# Altium footprint library 14-SOIC-TI-D.PcbLib: 1 footprints
Each footprint in its own frame and in the unit in brackets; x right, y up, seen from the top. Pads: shape width x height; smd on the part's side, far side on the other; paste and mask are expansions set on the pad; w line width, h text height; cw(c..) or ccw(c..) is an arc to the next point about the centre after c.
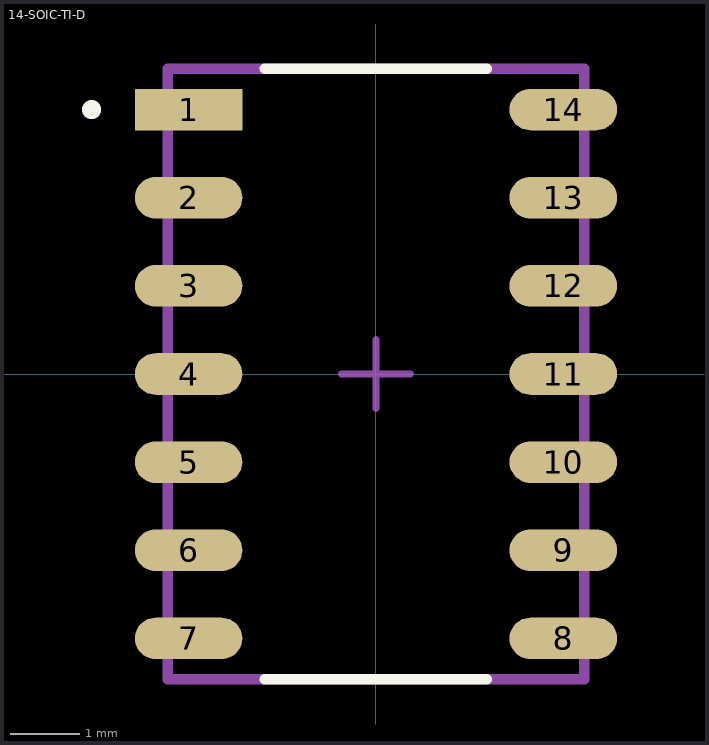
[diagram p0: the footprint, top view; thin cyan lines are the x and y axes]

## 14-SOIC-TI-D [mm]
pads (14):
  rect 1.55x0.6 smd mask+0.051: 1(-2.7,3.81)
  oval 1.55x0.6 smd mask+0.051: 2(-2.7,2.54) 3(-2.7,1.27) 4(-2.7,0) 5(-2.7,-1.27) 6(-2.7,-2.54) 7(-2.7,-3.81) 8(2.7,-3.81) 9(2.7,-2.54) 10(2.7,-1.27) 11(2.7,0) 12(2.7,1.27) 13(2.7,2.54) 14(2.7,3.81)
Top Overlay:
  circle w0.254: c-4.097,3.81 r0.01
  lines w0.15: -1.6,-4.4 1.6,-4.4 ; -1.6,4.4 1.6,4.4
Mechanical 13:
  lines w0.15: -3,-4.4 -3,4.4 3,4.4 3,-4.4 -3,-4.4
Mechanical 15:
  lines w0.1: -0.5,0 0,0 ; 0,0 0,0.5 0,0 ; 0,0 0.5,0 0,0 ; 0,0 0,-0.5 0,0
3D body "14-SOIC.step": height 1.7, standoff 0, extent -3,-4.4 3,4.4